# Altium footprint library WR-TBL_Wire Protector_10.00mm.PcbLib: 57 footprints (part 4 of 4)
Each footprint in its own frame and in the unit in brackets; x right, y up, seen from the top. Pads: shape width x height; smd on the part's side, far side on the other; paste and mask are expansions set on the pad; w line width, h text height; cw(c..) or ccw(c..) is an arc to the next point about the centre after c.
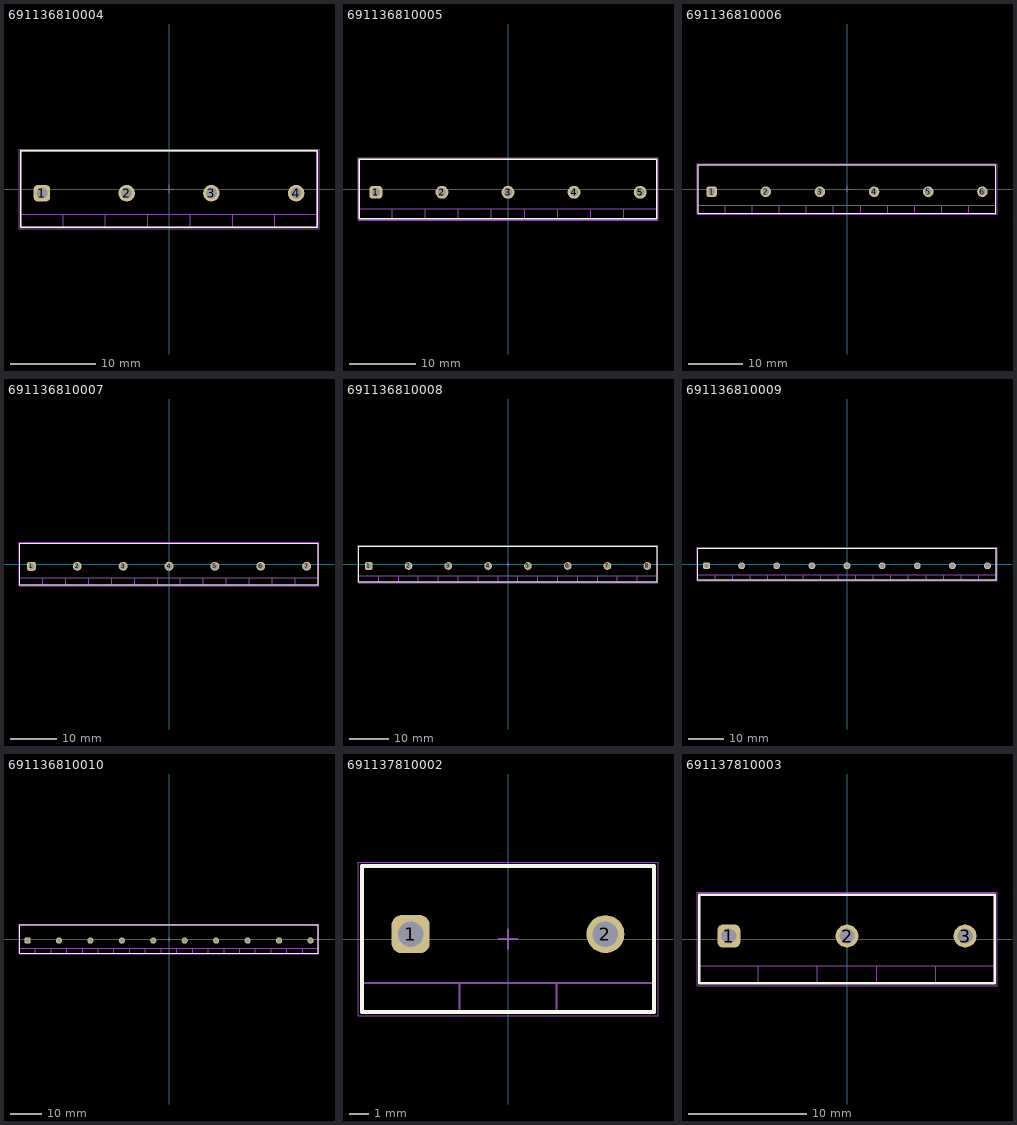
[diagram p3: the footprints below, top view; thin cyan lines are the x and y axes]

## 691136810004 [mm] "Serie 1368 - 10.00 mm _ 4 pins"
height 13
pads (4):
  rrect50% 1.95x1.95 hole 1.3: 1(-15,-0.5)
  round 1.95 hole 1.3: 2(-5,-0.5) 3(5,-0.5) 4(15,-0.5)
Top Overlay:
  lines w0.2: -17.5,-4.5 17.5,-4.5 17.5,4.5 -17.5,4.5 -17.5,-4.5
Top Assembly:
  lines w0.1: -17.5,-3 17.5,-3 ; -12.5,-4.5 -12.5,-3 ; -7.5,-4.5 -7.5,-3 ; -2.5,-4.5 -2.5,-3 ; 2.5,-4.5 2.5,-3 ; 7.5,-4.5 7.5,-3 ; 12.5,-4.5 12.5,-3 ; -17.5,-4.5 -17.5,4.5 17.5,4.5 17.5,-4.5 -17.5,-4.5
Top Designator:
  text ".Designator" at -3.647,-0.357 h1
Top 3D Body:
  lines w0.1: -17.5,-3 17.5,-3 ; -12.5,-4.5 -12.5,-3 ; -7.5,-4.5 -7.5,-3 ; -2.5,-4.5 -2.5,-3 ; 2.5,-4.5 2.5,-3 ; 7.5,-4.5 7.5,-3 ; 12.5,-4.5 12.5,-3 ; -17.5,-4.5 17.5,-4.5 17.5,4.5 -17.5,4.5 -17.5,-4.5
Top Courtyard:
  lines w0.05: -17.7,-4.7 17.7,-4.7 17.7,4.7 -17.7,4.7 -17.7,-4.7
Top Component Center:
  lines w0.1: -0.5,0 0.5,0 ; 0,-0.5 0,0.5
3D body "691136810004.stp": height 13.1, standoff -3.9, extent -17.5,-4.5 17.5,4.5

## 691136810005 [mm] "Serie 1368 - 10.00 mm _ 5 pins"
height 13
pads (5):
  rrect50% 1.95x1.95 hole 1.3: 1(-20,-0.5)
  round 1.95 hole 1.3: 2(-10,-0.5) 3(0,-0.5) 4(10,-0.5) 5(20,-0.5)
Top Overlay:
  lines w0.2: -22.5,-4.5 -22.5,4.5 22.5,4.5 22.5,-4.5 -22.5,-4.5
Top Assembly:
  lines w0.1: -22.5,-3 22.5,-3 ; -17.5,-4.5 -17.5,-3 ; -12.5,-4.5 -12.5,-3 ; -7.5,-4.5 -7.5,-3 ; -2.5,-4.5 -2.5,-3 ; 2.5,-4.5 2.5,-3 ; 7.5,-4.5 7.5,-3 ; 12.5,-4.5 12.5,-3 ; 17.5,-4.5 17.5,-3 ; -22.5,-4.5 22.5,-4.5 22.5,4.5 -22.5,4.5 -22.5,-4.5
Top Designator:
  text ".Designator" at -3.647,-0.357 h1
Top 3D Body:
  lines w0.1: -22.5,-3 22.5,-3 ; -17.5,-4.5 -17.5,-3 ; -12.5,-4.5 -12.5,-3 ; -7.5,-4.5 -7.5,-3 ; -2.5,-4.5 -2.5,-3 ; 2.5,-4.5 2.5,-3 ; 7.5,-4.5 7.5,-3 ; 12.5,-4.5 12.5,-3 ; 17.5,-4.5 17.5,-3 ; -22.5,-4.5 -22.5,4.5 22.5,4.5 22.5,-4.5 -22.5,-4.5
Top Courtyard:
  lines w0.05: -22.7,-4.7 -22.7,4.7 22.7,4.7 22.7,-4.7 -22.7,-4.7
Top Component Center:
  lines w0.1: -0.5,0 0.5,0 ; 0,-0.5 0,0.5
3D body "691136810005.stp": height 13.1, standoff -3.9, extent -22.5,-4.5 22.5,4.5

## 691136810006 [mm] "Serie 1368 - 10.00 mm _ 6 pins"
height 13
pads (6):
  rrect50% 1.95x1.95 hole 1.3: 1(-25,-0.5)
  round 1.95 hole 1.3: 2(-15,-0.5) 3(-5,-0.5) 4(5,-0.5) 5(15,-0.5) 6(25,-0.5)
Top Overlay:
  lines w0.2: -27.5,-4.5 -27.5,4.5 27.5,4.5 27.5,-4.5 -27.5,-4.5
Top Assembly:
  lines w0.1: -27.5,-3 27.5,-3 ; -22.5,-4.5 -22.5,-3 ; -17.5,-4.5 -17.5,-3 ; -12.5,-4.5 -12.5,-3 ; -7.5,-4.5 -7.5,-3 ; -2.5,-4.5 -2.5,-3 ; 2.5,-4.5 2.5,-3 ; 7.5,-4.5 7.5,-3 ; 12.5,-4.5 12.5,-3 ; 17.5,-4.5 17.5,-3 ; 22.5,-4.5 22.5,-3 ; -27.5,-4.5 27.5,-4.5 27.5,4.5 -27.5,4.5 -27.5,-4.5
Top Designator:
  text ".Designator" at -3.647,-0.357 h1
Top 3D Body:
  lines w0.1: -27.5,-3 27.5,-3 ; -22.5,-4.5 -22.5,-3 ; -17.5,-4.5 -17.5,-3 ; -12.5,-4.5 -12.5,-3 ; -7.5,-4.5 -7.5,-3 ; -2.5,-4.5 -2.5,-3 ; 2.5,-4.5 2.5,-3 ; 7.5,-4.5 7.5,-3 ; 12.5,-4.5 12.5,-3 ; 17.5,-4.5 17.5,-3 ; 22.5,-4.5 22.5,-3 ; -27.5,-4.5 -27.5,4.5 27.5,4.5 27.5,-4.5 -27.5,-4.5
Top Courtyard:
  lines w0.05: -27.7,-4.7 -27.7,4.7 27.7,4.7 27.7,-4.7 -27.7,-4.7
Top Component Center:
  lines w0.1: -0.5,0 0.5,0 ; 0,-0.5 0,0.5
3D body "691136810006.stp": height 13.1, standoff -3.9, extent -27.5,-4.5 27.5,4.5

## 691136810007 [mm] "Serie 1368 - 10.00 mm _ 7 pins"
height 13
pads (7):
  rrect50% 1.95x1.95 hole 1.3: 1(-30,-0.5)
  round 1.95 hole 1.3: 2(-20,-0.5) 3(-10,-0.5) 4(0,-0.5) 5(10,-0.5) 6(20,-0.5) 7(30,-0.5)
Top Overlay:
  lines w0.2: -32.5,-4.5 32.5,-4.5 32.5,4.5 -32.5,4.5 -32.5,-4.5
Top Assembly:
  lines w0.1: -32.5,-3 32.5,-3 ; -27.5,-4.5 -27.5,-3 ; -22.5,-4.5 -22.5,-3 ; -17.5,-4.5 -17.5,-3 ; -12.5,-4.5 -12.5,-3 ; -7.5,-4.5 -7.5,-3 ; -2.5,-4.5 -2.5,-3 ; 2.5,-4.5 2.5,-3 ; 7.5,-4.5 7.5,-3 ; 12.5,-4.5 12.5,-3 ; 17.5,-4.5 17.5,-3 ; 22.5,-4.5 22.5,-3 ; 27.5,-4.5 27.5,-3 ; -32.5,-4.5 -32.5,4.5 32.5,4.5 32.5,-4.5 -32.5,-4.5
Top Designator:
  text ".Designator" at -3.647,-0.357 h1
Top 3D Body:
  lines w0.1: -32.5,-3 32.5,-3 ; -27.5,-4.5 -27.5,-3 ; -22.5,-4.5 -22.5,-3 ; -17.5,-4.5 -17.5,-3 ; -12.5,-4.5 -12.5,-3 ; -7.5,-4.5 -7.5,-3 ; -2.5,-4.5 -2.5,-3 ; 2.5,-4.5 2.5,-3 ; 7.5,-4.5 7.5,-3 ; 12.5,-4.5 12.5,-3 ; 17.5,-4.5 17.5,-3 ; 22.5,-4.5 22.5,-3 ; 27.5,-4.5 27.5,-3 ; -32.5,-4.5 32.5,-4.5 32.5,4.5 -32.5,4.5 -32.5,-4.5
Top Courtyard:
  lines w0.05: -32.7,-4.7 32.7,-4.7 32.7,4.7 -32.7,4.7 -32.7,-4.7
Top Component Center:
  lines w0.1: -0.5,0 0.5,0 ; 0,-0.5 0,0.5
3D body "691136810007.stp": height 13.1, standoff -3.9, extent -32.5,-4.5 32.5,4.5

## 691136810008 [mm] "Serie 1368 - 10.00 mm _ 8 pins"
height 13
pads (8):
  rrect50% 1.95x1.95 hole 1.3: 1(-35,-0.5)
  round 1.95 hole 1.3: 2(-25,-0.5) 3(-15,-0.5) 4(-5,-0.5) 5(5,-0.5) 6(15,-0.5) 7(25,-0.5) 8(35,-0.5)
Top Overlay:
  lines w0.2: -37.5,-4.5 37.5,-4.5 37.5,4.5 -37.5,4.5 -37.5,-4.5
Top Assembly:
  lines w0.1: -37.5,-3 37.5,-3 ; -32.5,-4.5 -32.5,-3 ; -27.5,-4.5 -27.5,-3 ; -22.5,-4.5 -22.5,-3 ; -17.5,-4.5 -17.5,-3 ; -12.5,-4.5 -12.5,-3 ; -7.5,-4.5 -7.5,-3 ; -2.5,-4.5 -2.5,-3 ; 2.5,-4.5 2.5,-3 ; 7.5,-4.5 7.5,-3 ; 12.5,-4.5 12.5,-3 ; 17.5,-4.5 17.5,-3 ; 22.5,-4.5 22.5,-3 ; 27.5,-4.5 27.5,-3 ; 32.5,-4.5 32.5,-3 ; -37.5,-4.5 -37.5,4.5 37.5,4.5 37.5,-4.5 -37.5,-4.5
Top Designator:
  text ".Designator" at -3.647,-0.357 h1
Top 3D Body:
  lines w0.1: -37.5,-3 37.5,-3 ; -32.5,-4.5 -32.5,-3 ; -27.5,-4.5 -27.5,-3 ; -22.5,-4.5 -22.5,-3 ; -17.5,-4.5 -17.5,-3 ; -12.5,-4.5 -12.5,-3 ; -7.5,-4.5 -7.5,-3 ; -2.5,-4.5 -2.5,-3 ; 2.5,-4.5 2.5,-3 ; 7.5,-4.5 7.5,-3 ; 12.5,-4.5 12.5,-3 ; 17.5,-4.5 17.5,-3 ; 22.5,-4.5 22.5,-3 ; 27.5,-4.5 27.5,-3 ; 32.5,-4.5 32.5,-3 ; -37.5,-4.5 37.5,-4.5 37.5,4.5 -37.5,4.5 -37.5,-4.5
Top Courtyard:
  lines w0.05: -37.7,-4.7 37.7,-4.7 37.7,4.7 -37.7,4.7 -37.7,-4.7
Top Component Center:
  lines w0.1: -0.5,0 0.5,0 ; 0,-0.5 0,0.5
3D body "691136810008.stp": height 13.1, standoff -3.9, extent -37.5,-4.5 37.5,4.5

## 691136810009 [mm] "Serie 1368 - 10.00 mm _ 9 pins"
height 13
pads (9):
  rrect50% 1.95x1.95 hole 1.3: 1(-40,-0.5)
  round 1.95 hole 1.3: 2(-30,-0.5) 3(-20,-0.5) 4(-10,-0.5) 5(0,-0.5) 6(10,-0.5) 7(20,-0.5) 8(30,-0.5) 9(40,-0.5)
Top Overlay:
  lines w0.2: -42.5,-4.5 -42.5,4.5 42.5,4.5 42.5,-4.5 -42.5,-4.5
Top Assembly:
  lines w0.1: -42.5,-3 42.5,-3 ; -37.5,-4.5 -37.5,-3 ; -32.5,-4.5 -32.5,-3 ; -27.5,-4.5 -27.5,-3 ; -22.5,-4.5 -22.5,-3 ; -17.5,-4.5 -17.5,-3 ; -12.5,-4.5 -12.5,-3 ; -7.5,-4.5 -7.5,-3 ; -2.5,-4.5 -2.5,-3 ; 2.5,-4.5 2.5,-3 ; 7.5,-4.5 7.5,-3 ; 12.5,-4.5 12.5,-3 ; 17.5,-4.5 17.5,-3 ; 22.5,-4.5 22.5,-3 ; 27.5,-4.5 27.5,-3 ; 32.5,-4.5 32.5,-3 ; 37.5,-4.5 37.5,-3 ; -42.5,-4.5 42.5,-4.5 42.5,4.5 -42.5,4.5 -42.5,-4.5
Top Designator:
  text ".Designator" at -3.647,-0.357 h1
Top 3D Body:
  lines w0.1: -42.5,-3 42.5,-3 ; -37.5,-4.5 -37.5,-3 ; -32.5,-4.5 -32.5,-3 ; -27.5,-4.5 -27.5,-3 ; -22.5,-4.5 -22.5,-3 ; -17.5,-4.5 -17.5,-3 ; -12.5,-4.5 -12.5,-3 ; -7.5,-4.5 -7.5,-3 ; -2.5,-4.5 -2.5,-3 ; 2.5,-4.5 2.5,-3 ; 7.5,-4.5 7.5,-3 ; 12.5,-4.5 12.5,-3 ; 17.5,-4.5 17.5,-3 ; 22.5,-4.5 22.5,-3 ; 27.5,-4.5 27.5,-3 ; 32.5,-4.5 32.5,-3 ; 37.5,-4.5 37.5,-3 ; -42.5,-4.5 -42.5,4.5 42.5,4.5 42.5,-4.5 -42.5,-4.5
Top Courtyard:
  lines w0.05: -42.7,-4.7 -42.7,4.7 42.7,4.7 42.7,-4.7 -42.7,-4.7
Top Component Center:
  lines w0.1: -0.5,0 0.5,0 ; 0,-0.5 0,0.5
3D body "691136810009.stp": height 13.1, standoff -3.9, extent -42.5,-4.5 42.5,4.5

## 691136810010 [mm] "Serie 1368 - 10.00 mm _ 10 pins"
height 13
pads (10):
  rrect50% 1.95x1.95 hole 1.3: 1(-45,-0.5)
  round 1.95 hole 1.3: 2(-35,-0.5) 3(-25,-0.5) 4(-15,-0.5) 5(-5,-0.5) 6(5,-0.5) 7(15,-0.5) 8(25,-0.5) 9(35,-0.5) 10(45,-0.5)
Top Overlay:
  lines w0.2: -47.5,-4.5 47.5,-4.5 47.5,4.5 -47.5,4.5 -47.5,-4.5
Top Assembly:
  lines w0.1: -47.5,-3 47.5,-3 ; -42.5,-4.5 -42.5,-3 ; -37.5,-4.5 -37.5,-3 ; -32.5,-4.5 -32.5,-3 ; -27.5,-4.5 -27.5,-3 ; -22.5,-4.5 -22.5,-3 ; -17.5,-4.5 -17.5,-3 ; -12.5,-4.5 -12.5,-3 ; -7.5,-4.5 -7.5,-3 ; -2.5,-4.5 -2.5,-3 ; 2.5,-4.5 2.5,-3 ; 7.5,-4.5 7.5,-3 ; 12.5,-4.5 12.5,-3 ; 17.5,-4.5 17.5,-3 ; 22.5,-4.5 22.5,-3 ; 27.5,-4.5 27.5,-3 ; 32.5,-4.5 32.5,-3 ; 37.5,-4.5 37.5,-3 ; 42.5,-4.5 42.5,-3 ; -47.5,-4.5 -47.5,4.5 47.5,4.5 47.5,-4.5 -47.5,-4.5
Top Designator:
  text ".Designator" at -3.647,-0.357 h1
Top 3D Body:
  lines w0.1: -47.5,-3 47.5,-3 ; -42.5,-4.5 -42.5,-3 ; -37.5,-4.5 -37.5,-3 ; -32.5,-4.5 -32.5,-3 ; -27.5,-4.5 -27.5,-3 ; -22.5,-4.5 -22.5,-3 ; -17.5,-4.5 -17.5,-3 ; -12.5,-4.5 -12.5,-3 ; -7.5,-4.5 -7.5,-3 ; -2.5,-4.5 -2.5,-3 ; 2.5,-4.5 2.5,-3 ; 7.5,-4.5 7.5,-3 ; 12.5,-4.5 12.5,-3 ; 17.5,-4.5 17.5,-3 ; 22.5,-4.5 22.5,-3 ; 27.5,-4.5 27.5,-3 ; 32.5,-4.5 32.5,-3 ; 37.5,-4.5 37.5,-3 ; 42.5,-4.5 42.5,-3 ; -47.5,-4.5 47.5,-4.5 47.5,4.5 -47.5,4.5 -47.5,-4.5
Top Courtyard:
  lines w0.05: -47.7,-4.7 47.7,-4.7 47.7,4.7 -47.7,4.7 -47.7,-4.7
Top Component Center:
  lines w0.1: -0.5,0 0.5,0 ; 0,-0.5 0,0.5
3D body "691136810010.stp": height 13.1, standoff -3.9, extent -47.5,-4.5 47.5,4.5

## 691137810002 [mm] "Serie 1378 - 10.00 mm_2 pins"
height 11.5
pads (2):
  rrect50% 1.95x1.95 hole 1.3: 1(-5,0.25)
  round 1.95 hole 1.3: 2(5,0.25)
Top Overlay:
  lines w0.2: -7.5,-3.75 7.5,-3.75 7.5,3.75 -7.5,3.75 -7.5,-3.75
Top Assembly:
  lines w0.1: -7.5,-2.25 7.5,-2.25 ; -2.5,-3.75 -2.5,-2.25 ; 2.5,-3.75 2.5,-2.25 ; -7.5,-3.75 -7.5,3.75 7.5,3.75 7.5,-3.75 -7.5,-3.75
Top Designator:
  text ".Designator" at -3.647,-0.357 h1
Top 3D Body:
  lines w0.1: -7.5,-2.25 7.5,-2.25 ; -2.5,-3.75 -2.5,-2.25 ; 2.5,-3.75 2.5,-2.25 ; -7.5,-3.75 7.5,-3.75 7.5,3.75 -7.5,3.75 -7.5,-3.75
Top Courtyard:
  lines w0.05: -7.7,-3.95 -7.7,3.95 7.7,3.95 7.7,-3.95 -7.7,-3.95
Top Component Center:
  lines w0.1: -0.5,0 0.5,0 ; 0,-0.5 0,0.5
3D body "691137810002.stp": height 11.6, standoff -3.5, extent -7.5,-3.75 7.5,3.75

## 691137810003 [mm] "Serie 1378 - 10.00 mm_3 pins"
height 11.5
pads (3):
  rrect50% 1.95x1.95 hole 1.3: 1(-10,0.25)
  round 1.95 hole 1.3: 2(0,0.25) 3(10,0.25)
Top Overlay:
  lines w0.2: -12.5,-3.75 12.5,-3.75 12.5,3.75 -12.5,3.75 -12.5,-3.75
Top Assembly:
  lines w0.1: -12.5,-2.25 12.5,-2.25 ; -7.5,-3.75 -7.5,-2.25 ; -2.5,-3.75 -2.5,-2.25 ; 2.5,-3.75 2.5,-2.25 ; 7.5,-3.75 7.5,-2.25 ; -12.5,-3.75 -12.5,3.75 12.5,3.75 12.5,-3.75 -12.5,-3.75
Top Designator:
  text ".Designator" at -3.647,-0.357 h1
Top 3D Body:
  lines w0.1: -12.5,-2.25 12.5,-2.25 ; -7.5,-3.75 -7.5,-2.25 ; -2.5,-3.75 -2.5,-2.25 ; 2.5,-3.75 2.5,-2.25 ; 7.5,-3.75 7.5,-2.25 ; -12.5,-3.75 12.5,-3.75 12.5,3.75 -12.5,3.75 -12.5,-3.75
Top Courtyard:
  lines w0.05: -12.7,-3.95 -12.7,3.95 12.7,3.95 12.7,-3.95 -12.7,-3.95
Top Component Center:
  lines w0.1: -0.5,0 0.5,0 ; 0,-0.5 0,0.5
3D body "691137810003.stp": height 11.6, standoff -3.5, extent -12.5,-3.75 12.5,3.75